# EAGLE library part S6PIN (library jst_eh)
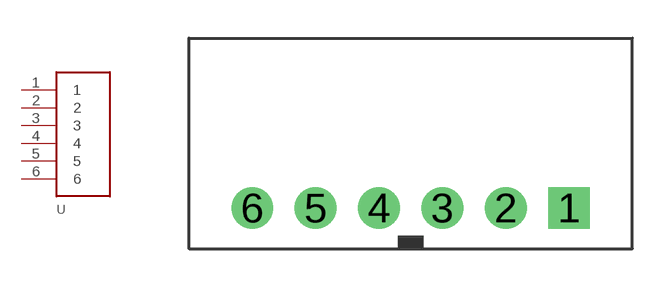
[diagram p10: symbol with the pads of S6B-EH; footprint S6B-EH]

Designator prefix -

## S6PIN  [S6B-EH]
1  1
2  2
3  3
4  4
5  5
6  6

## Footprint S6B-EH (pad centres in mm)
drill 1.1 square: 1 6.25,0
drill 1.1: 2 3.75,0; 3 1.25,0; 4 -1.25,0; 5 -3.75,0; 6 -6.25,0